# EAGLE library part 662020231722 (library Wuerth_Elektronik_eiCan_08_Micro_Power_Connectors)
WR-MPC3 3.00mm Male Dual Row SMT Angled Header SMT Fitting Nail Clip, 20 Pins
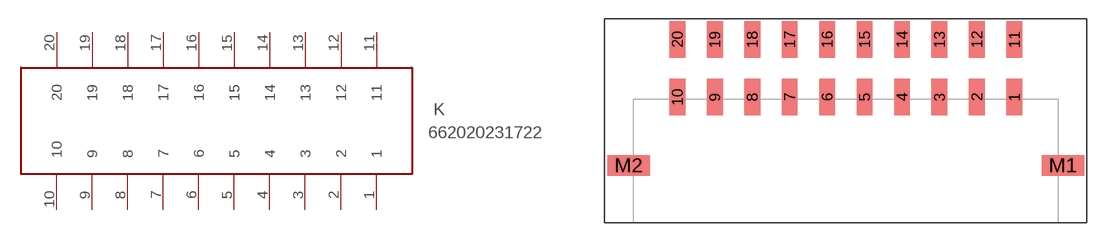
[diagram p67: symbol with the pads of 662020231722; footprint 662020231722]

Designator prefix K

## 662020231722  [662020231722]
1  1
2  2
3  3
4  4
5  5
6  6
7  7
8  8
9  9
10  10
11  11
12  12
13  13
14  14
15  15
16  16
17  17
18  18
19  19
20  20

## Footprint 662020231722 (pad centres in mm)
WR-MPC3 3.00mm Male Dual Row SMT Angled Header SMT Fitting Nail Clip, 20 Pins
smd 1.27 x 2.92: 1 0,-2.31; 2 -3,-2.31; 3 -6,-2.31; 4 -9,-2.31; 5 -12,-2.31; 6 -15,-2.31; 7 -18,-2.31; 8 -21,-2.31; 9 -24,-2.31; 10 -27,-2.31; 11 0,2.31; 12 -3,2.31; 13 -6,2.31; 14 -9,2.31; 15 -12,2.31; 16 -15,2.31; 17 -18,2.31; 18 -21,2.31; 19 -24,2.31; 20 -27,2.31
smd 3.43 x 1.65: M1 3.895,-7.79; M2 -30.895,-7.79